# Altium footprint library RSxxx для сумматора.PcbLib: 8 footprints
Each footprint in its own frame and in the unit in brackets; x right, y up, seen from the top. Pads: shape width x height; smd on the part's side, far side on the other; paste and mask are expansions set on the pad; w line width, h text height; cw(c..) or ccw(c..) is an arc to the next point about the centre after c.
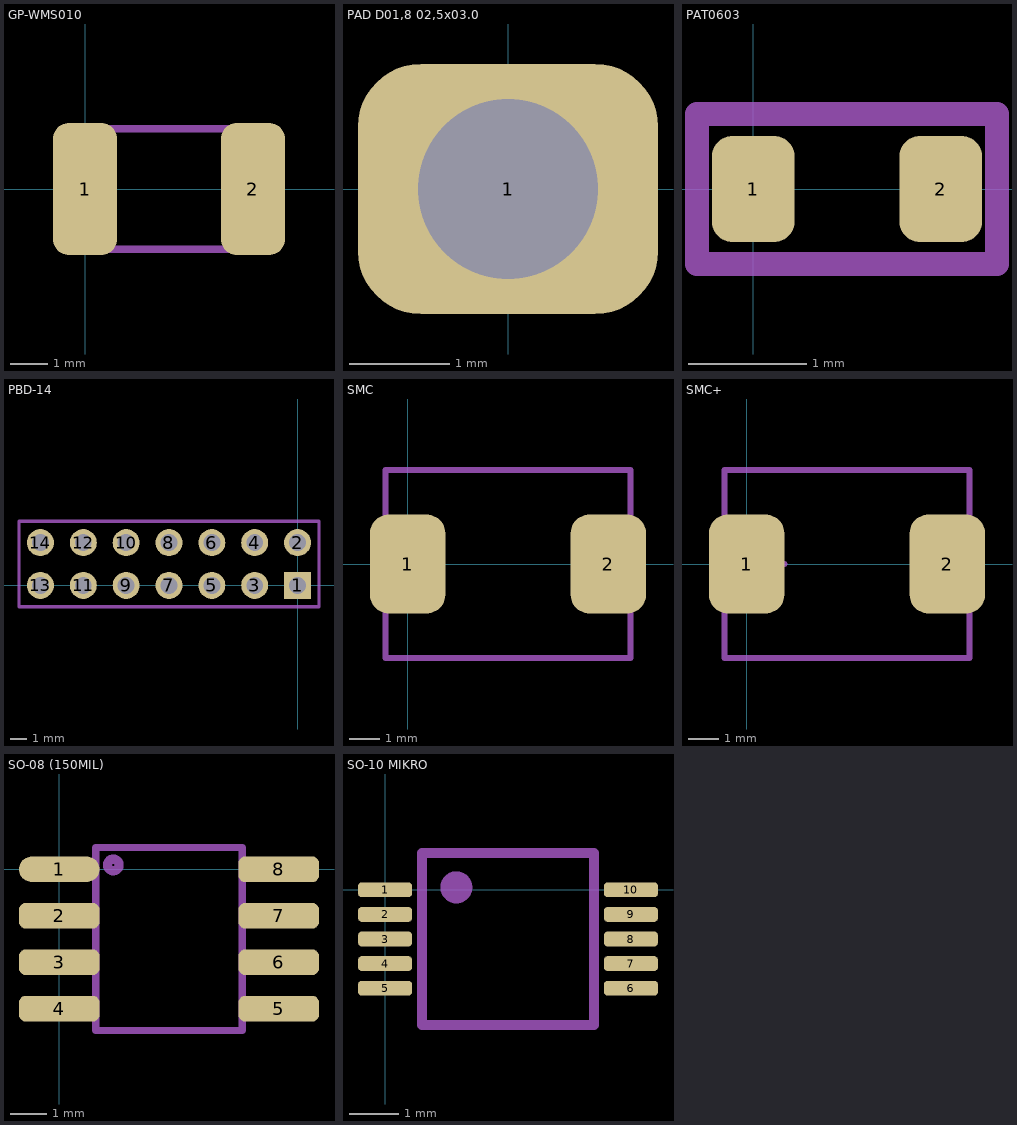
[diagram p0: the footprints below, top view; thin cyan lines are the x and y axes]

## GP-WMS010 [mm]
pads (2):
  rrect50% 1.7x3.5 smd: 1(0,0) 2(4.445,0)
Mechanical 1:
  lines w0.2: -0.028,-1.6 4.473,-1.6 4.473,1.6 -0.028,1.6 -0.028,-1.6
3D body: height 0.83, standoff 0.02, extent -0.142,-1.705 4.587,1.705

## PAD D01,8 02,5x03.0 [mm]
pads (1):
  rrect50% 3x2.5 hole 1.8: 1(0,0)

## PAT0603 [mm]
pads (2):
  rrect50% 0.7x0.9 smd: 1(0,0) 2(1.587,0)
Mechanical 1:
  lines w0.2: -0.476,-0.635 -0.476,0.635 2.064,0.635 2.064,-0.635 -0.476,-0.635
3D body: height 0.82, standoff 0.02, extent -0.006,-0.4 1.594,0.4

## PBD-14 [mm]
pads (14):
  rect 1.6x1.6 hole 1: 1(0,0)
  round 1.6 hole 1: 2(0,2.54) 3(-2.54,0) 4(-2.54,2.54) 5(-5.08,0) 6(-5.08,2.54) 7(-7.62,0) 8(-7.62,2.54) 9(-10.16,0) 10(-10.16,2.54) 11(-12.7,0) 12(-12.7,2.54) 13(-15.24,0) 14(-15.24,2.54)
Mechanical 1:
  lines w0.2: -16.51,-1.27 1.27,-1.27 1.27,3.81 -16.51,3.81 -16.51,-1.27
3D body: height 8.42, standoff -3.18, extent -16.51,-1.27 1.27,3.81

## SMC [mm]
pads (2):
  rrect50% 2.5x3.3 smd paste-25.4: 1(0,0) 2(6.668,0)
Mechanical 1:
  lines w0.2: -0.741,-3.125 7.409,-3.125 7.409,3.125 -0.741,3.125 -0.741,-3.125
3D body: height 2.64, standoff 0.02, extent -0.731,-3.11 7.399,3.11

## SMC+ [mm]
pads (2):
  rrect50% 2.5x3.3 smd paste-25.4: 1(0,0) 2(6.668,0)
Mechanical 1:
  lines w0.2: -0.25,0 1.25,0 ; 0.5,-0.75 0.5,0.75 ; -0.741,-3.125 -0.741,3.125 7.409,3.125 7.409,-3.125 -0.741,-3.125
3D body: height 2.64, standoff 0.02, extent -0.731,-3.11 7.399,3.11

## SO-08 (150MIL) [mm]
pads (8):
  oval 2.2x0.7 smd: 1(0,0)
  rrect50% 2.2x0.7 smd: 2(0,-1.27) 3(0,-2.54) 4(0,-3.81) 5(6,-3.81) 6(6,-2.54) 7(6,-1.27) 8(6,0)
Mechanical 1:
  circle w0.25: c1.476,0.119 r0.159
  lines w0.2: 1,-4.405 5,-4.405 5,0.595 1,0.595 1,-4.405
  text "8" at 5.278,-0.688 h0.63
  text "5" at 5.278,-4.498 h0.63
  text "4" at -0.12,-4.498 h0.63
  text "1" at -0.12,-0.688 h0.63
3D body: height 1.77, standoff 0.02, extent -0.1,-4.405 6.1,0.595

## SO-10 MIKRO [mm]
pads (10):
  rrect50% 1.1x0.3 smd: 1(0,0) 2(0,-0.5) 3(0,-1) 4(0,-1.5) 5(0,-2) 6(5,-2) 7(5,-1.5) 8(5,-1) 9(5,-0.5) 10(5,0)
Mechanical 1:
  circle w0.35: c1.45,0.05 r0.15
  lines w0.2: 0.75,-2.75 4.25,-2.75 4.25,0.75 0.75,0.75 0.75,-2.75
  text "1" at -0.437,-0.688 h0.63
  text ".6" at 5.594,-1.312 h0.63
3D body: height 1.11, standoff 0.02, extent -0.025,-2.575 5.025,0.575